# EAGLE library part 691311700112 (library WR-TBL Pluggable Connector)
WR-TBL Serie 3117 - 5.00 mm Close Vertical PCB Header KIND PROPERTIES Pitch 5 mm MATERIAL PROPERTIES Insulator Material PA66 Insulator Flammability Rating UL94 V-0 Contact Material Brass Contact Plating Tin GENERAL INFORMATION Operating Temperature -40 up to +105 °C Compliance RoHS ELECTRICAL PROPERTIES IR cULus 20 A IR VDE 20 A Working Voltage 300 V (AC) Working Voltage [cULus] 300 V (AC) Working Voltage [VDE] 300 V (AC) Withstanding Voltage [cULus] 1600 V (AC) Withstanding Voltage [VDE] 2500 V (AC) Contact Resistance [cULus] 20 mΩ Contact Resistance [VDE] 20 mΩ CERTIFICATION cULus Approval E315414 VDE Approval 40023195 <https://www.we-online.com/catalog/media/o33260v209%20Family_WR-TBL_69131170010x.jpg> Details see: www.we-online.com/catalog/TBL_5_00_3117_CLOSE_VERTICAL_PCB_HEADER_69131170010X <www.we-online.com/catalog/TBL_5_00_3117_CLOSE_VERTICAL_PCB_HEADER_69131170010X/?utm_source=eagle_model&utm_medium=description_link&utm_campaign=eisos_eagle> Updated by Ella Wu 2022-07-25 2022(C) Wurth Elektronik
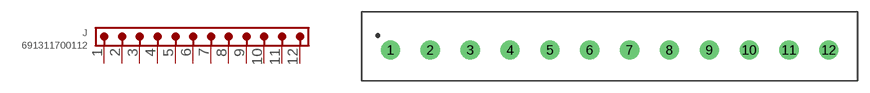
[diagram p167: symbol with the pads of 691311700112; footprint 691311700112]

Designator prefix J

## 691311700112 (DATASHEET-URL: https://www.we-online.com/redexpert/spec/691311700112?ae; IR-UL: 20A; IR-VDE: 20A; MOUNT: THT; PART-NUMBER: 691311700112; PINS: 12; PITCH: 5mm; TYPE: Vertical; VALUE: 691311700112; WORKING-VOLTAGE-UL: 300V (AC); WORKING-VOLTAGE-VDE: 300V (AC))  [691311700112]
1  1  pas
2  2  pas
3  3  pas
4  4  pas
5  5  pas
6  6  pas
7  7  pas
8  8  pas
9  9  pas
10  10  pas
11  11  pas
12  12  pas

## Footprint 691311700112 (pad centres in mm)
WR-TBL Serie 3117 - 5.00 mm Close Vertical PCB Header Max Height = 12mm , Pitch 5mm , 12pins
drill 1.6: 1 -27.5,0; 2 -22.5,0; 3 -17.5,0; 4 -12.5,0; 5 -7.5,0; 6 -2.5,0; 7 2.5,0; 8 7.5,0; 9 12.5,0; 10 17.5,0; 11 22.5,0; 12 27.5,0